# EAGLE library part WE-LAN_AQ_749020310 (library Wurth_Signal & Communications_WE-LAN_AQ)
WE-LAN AQ Transformer 10/100/1000 Base-T Characteristics 100 % automatic production Ethernet with speeds up to 1 Gbit/s Low profile height of 4 mm Improved Return Loss and Crosstalk properties Improved solderability and AOI inspection due to half-vias with gold plating Compatible with existing LAN products Applications Suitable for industrial temperatures from –40 °C up to +85 °C Compatible to Industrial Ethernet systems like EtherCAT or Profinet Compliant with most IC’s for Ethernet applications such as Microchip, Texas Instruments, Broadcom, Linear Technology Hubs, Routers, Switches, IP cameras, IoT applications <https://www.we-online.com/catalog/media/o97650v209%20Family_WE-LAN%20AQ_10_100_1000BaseT.jpg> Details see: https://www.we-online.com/catalog/en/WE-LANAQ Updated by Ella Wu 2019-07-22 2019 (C) Würth Elektronik
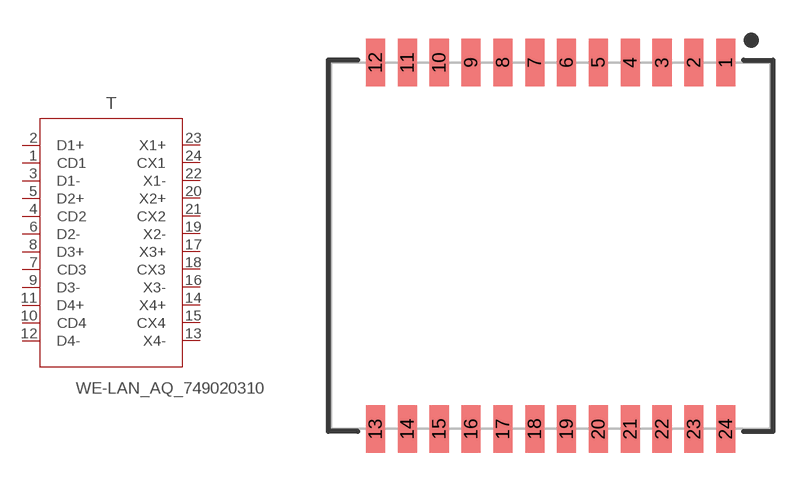
[diagram p1: symbol with the pads of WE-LANAQ_749020310; footprint WE-LANAQ_749020310]

Designator prefix T

## WE-LAN_AQ_749020310 (DATA-RATE: 10/100/1000 Base-T; DATASHEET-URL: https://www.we-online.com/catalog/datasheet/749020310.pdf; L: 350uH; MOUNT: SMT; PART-NUMBER: 749020310; POE: non-PoE; PORTS: 1; VALUE: 749020310; VT: 1500 V (RMS))  [WE-LANAQ_749020310]
1  CD1
2  D1+
3  D1-
4  CD2
5  D2+
6  D2-
7  CD3
8  D3+
9  D3-
10  CD4
11  D4+
12  D4-
13  X4-
14  X4+
15  CX4
16  X3-
17  X3+
18  CX3
19  X2-
20  X2+
21  CX2
22  X1-
23  X1+
24  CX1

## Footprint WE-LANAQ_749020310 (pad centres in mm)
WE-LAN AQ Transformer 10/100/1000 Base-T
smd 0.76 x 1.9: 1 6.985,7.305; 2 5.715,7.305; 3 4.445,7.305; 4 3.175,7.305; 5 1.905,7.305; 6 0.635,7.305; 7 -0.635,7.305; 8 -1.905,7.305; 9 -3.175,7.305; 10 -4.445,7.305; 11 -5.715,7.305; 12 -6.985,7.305; 13 -6.985,-7.305; 14 -5.715,-7.305; 15 -4.445,-7.305; 16 -3.175,-7.305; 17 -1.905,-7.305; 18 -0.635,-7.305; 19 0.635,-7.305; 20 1.905,-7.305; 21 3.175,-7.305; 22 4.445,-7.305; 23 5.715,-7.305; 24 6.985,-7.305